# Altium footprint library WE-HCFT.PcbLib: 22 footprints (part 1 of 2)
Each footprint in its own frame and in the unit in brackets; x right, y up, seen from the top. Pads: shape width x height; smd on the part's side, far side on the other; paste and mask are expansions set on the pad; w line width, h text height; cw(c..) or ccw(c..) is an arc to the next point about the centre after c.
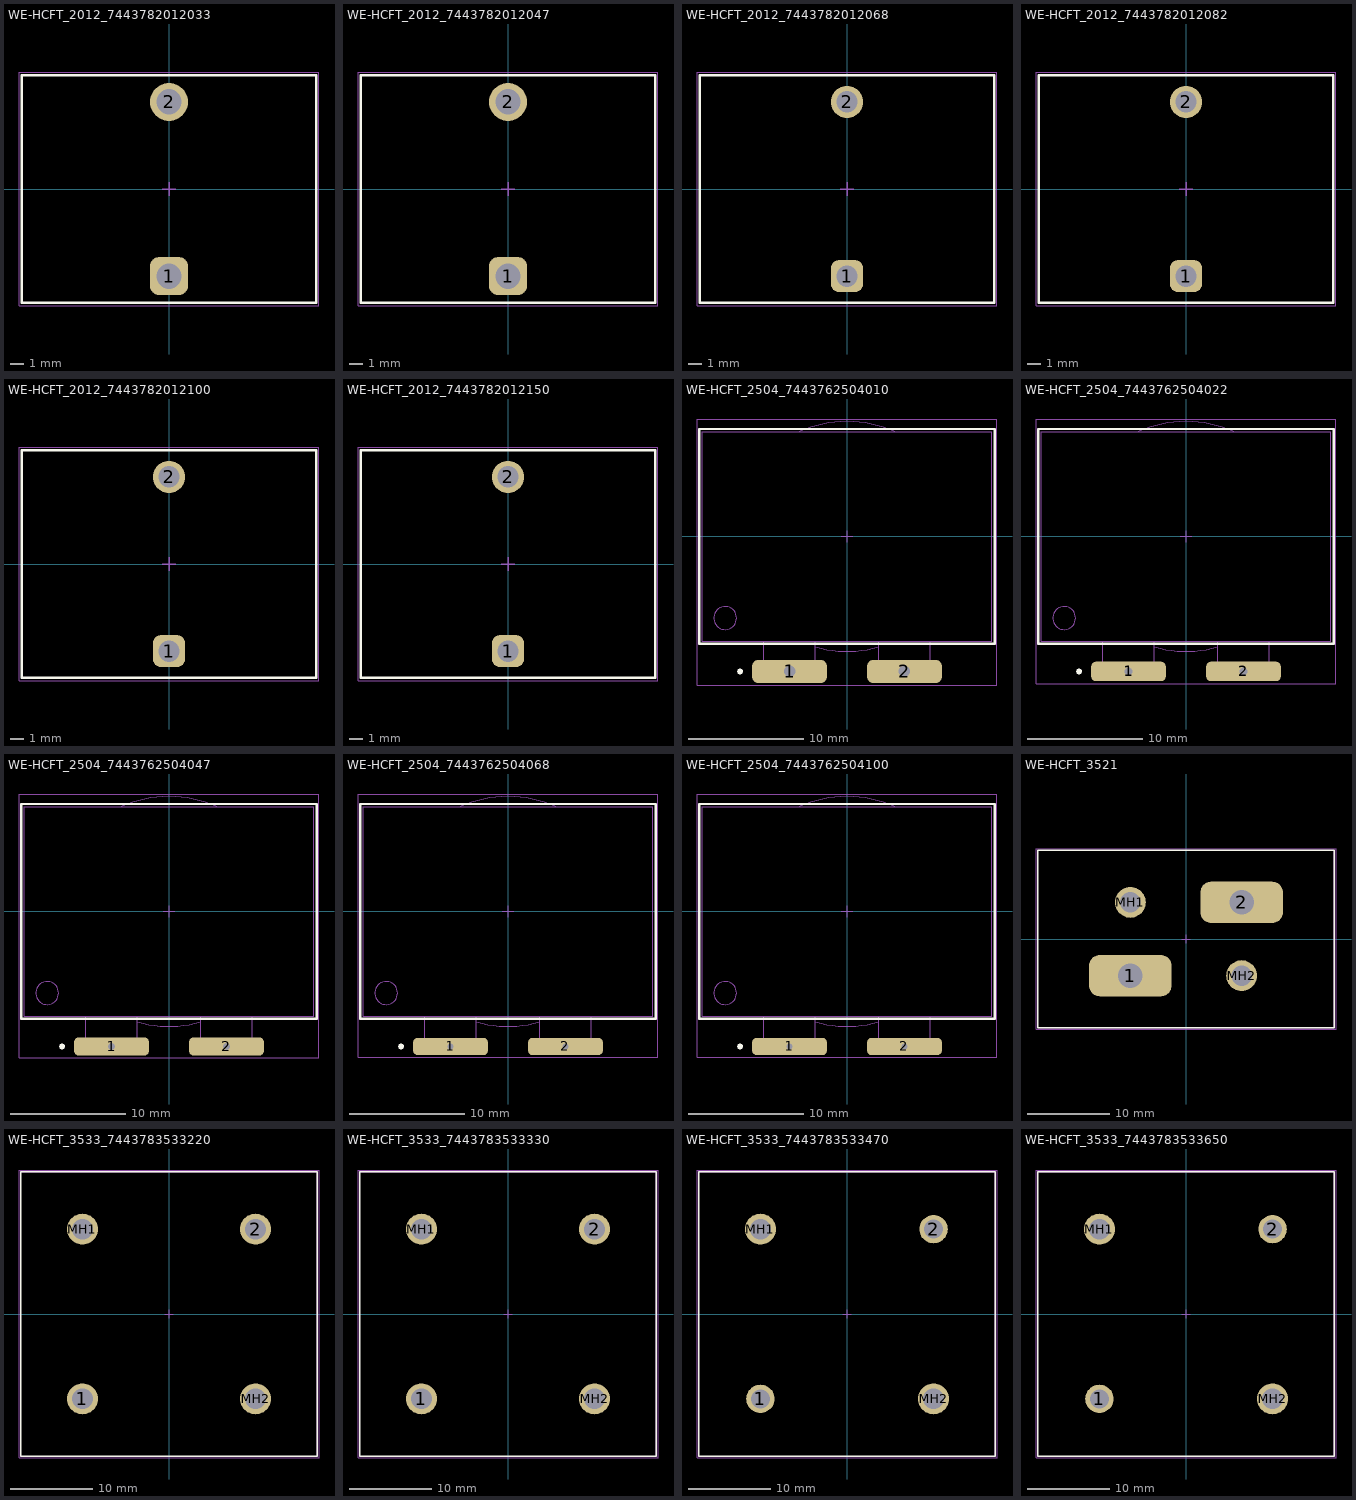
[diagram p0: the footprints below, top view; thin cyan lines are the x and y axes]

## WE-HCFT_2012_7443782012033 [mm] "THT High Current Inductor, body 22x17mm"
height 13.5
pads (2):
  rrect50% 2.85x2.85 hole 1.9: 1(0,-6.5)
  round 2.85 hole 1.9: 2(0,6.5)
Top Overlay:
  lines w0.2: -11,-8.5 11,-8.5 11,8.5 -11,8.5 -11,-8.5
Top Assembly:
  lines w0.1: -11,-8.5 11,-8.5 11,8.5 -11,8.5 -11,-8.5
Top Designator:
  text ".Designator" at -3.647,-0.357 h1
Top 3D Body:
  lines w0.1: -11,-8.5 -11,8.5 11,8.5 11,-8.5 -11,-8.5
Top Courtyard:
  lines w0.05: -11.2,-8.7 11.2,-8.7 11.2,8.7 -11.2,8.7 -11.2,-8.7
Top Component Center:
  lines w0.1: -0.5,0 0.5,0 ; 0,-0.5 0,0.5
3D body "2012_7443782012xxx_1,5 wire.stp": height 13.18, standoff -3.72, extent -10.584,-7.447 10.584,7.45

## WE-HCFT_2012_7443782012047 [mm] "THT High Current Inductor, body 22x17mm"
height 13.5
pads (2):
  rrect50% 2.85x2.85 hole 1.9: 1(0,-6.5)
  round 2.85 hole 1.9: 2(0,6.5)
Top Overlay:
  lines w0.2: -11,-8.5 -11,8.5 11,8.5 11,-8.5 -11,-8.5
Top Assembly:
  lines w0.1: -11,-8.5 -11,8.5 11,8.5 11,-8.5 -11,-8.5
Top Designator:
  text ".Designator" at -3.647,-0.357 h1
Top 3D Body:
  lines w0.1: -11,-8.5 11,-8.5 11,8.5 -11,8.5 -11,-8.5
Top Courtyard:
  lines w0.05: -11.2,-8.7 -11.2,8.7 11.2,8.7 11.2,-8.7 -11.2,-8.7
Top Component Center:
  lines w0.1: -0.5,0 0.5,0 ; 0,-0.5 0,0.5
3D body "2012_7443782012xxx_1,5 wire.stp": height 13.18, standoff -3.72, extent -10.584,-7.447 10.584,7.45

## WE-HCFT_2012_7443782012068 [mm] "THT High Current Inductor, body 22x17mm"
height 13.5
pads (2):
  rrect50% 2.4x2.4 hole 1.6: 1(0,-6.5)
  round 2.4 hole 1.6: 2(0,6.5)
Top Overlay:
  lines w0.2: -11,-8.5 -11,8.5 11,8.5 11,-8.5 -11,-8.5
Top Assembly:
  lines w0.1: -11,-8.5 -11,8.5 11,8.5 11,-8.5 -11,-8.5
Top Designator:
  text ".Designator" at -3.647,-0.357 h1
Top 3D Body:
  lines w0.1: -11,-8.5 11,-8.5 11,8.5 -11,8.5 -11,-8.5
Top Courtyard:
  lines w0.05: -11.2,-8.7 -11.2,8.7 11.2,8.7 11.2,-8.7 -11.2,-8.7
Top Component Center:
  lines w0.1: -0.5,0 0.5,0 ; 0,-0.5 0,0.5
3D body "7443782012xxx_1,2 wire.stp": height 13.18, standoff -3.72, extent -10.584,-7.099 10.584,7.352

## WE-HCFT_2012_7443782012082 [mm] "THT High Current Inductor, body 22x17mm"
height 13.5
pads (2):
  rrect50% 2.4x2.4 hole 1.6: 1(0,-6.5)
  round 2.4 hole 1.6: 2(0,6.5)
Top Overlay:
  lines w0.2: -11,-8.5 11,-8.5 11,8.5 -11,8.5 -11,-8.5
Top Assembly:
  lines w0.1: -11,-8.5 11,-8.5 11,8.5 -11,8.5 -11,-8.5
Top Designator:
  text ".Designator" at -3.647,-0.357 h1
Top 3D Body:
  lines w0.1: -11,-8.5 -11,8.5 11,8.5 11,-8.5 -11,-8.5
Top Courtyard:
  lines w0.05: -11.2,-8.7 11.2,-8.7 11.2,8.7 -11.2,8.7 -11.2,-8.7
Top Component Center:
  lines w0.1: -0.5,0 0.5,0 ; 0,-0.5 0,0.5
3D body "7443782012xxx_1,2 wire.stp": height 13.18, standoff -3.72, extent -10.584,-7.099 10.584,7.352

## WE-HCFT_2012_7443782012100 [mm] "THT High Current Inductor, body 22x17mm"
height 13.5
pads (2):
  rrect50% 2.4x2.4 hole 1.6: 1(0,-6.5)
  round 2.4 hole 1.6: 2(0,6.5)
Top Overlay:
  lines w0.2: -11,-8.5 -11,8.5 11,8.5 11,-8.5 -11,-8.5
Top Assembly:
  lines w0.1: -11,-8.5 -11,8.5 11,8.5 11,-8.5 -11,-8.5
Top Designator:
  text ".Designator" at -3.647,-0.357 h1
Top 3D Body:
  lines w0.1: -11,-8.5 11,-8.5 11,8.5 -11,8.5 -11,-8.5
Top Courtyard:
  lines w0.05: -11.2,-8.7 -11.2,8.7 11.2,8.7 11.2,-8.7 -11.2,-8.7
Top Component Center:
  lines w0.1: -0.5,0 0.5,0 ; 0,-0.5 0,0.5
3D body "7443782012xxx_1,2 wire.stp": height 13.18, standoff -3.72, extent -10.584,-7.099 10.584,7.352

## WE-HCFT_2012_7443782012150 [mm] "THT High Current Inductor, body 22x17mm"
height 13.5
pads (2):
  rrect50% 2.4x2.4 hole 1.6: 1(0,-6.5)
  round 2.4 hole 1.6: 2(0,6.5)
Top Overlay:
  lines w0.2: -11,-8.5 11,-8.5 11,8.5 -11,8.5 -11,-8.5
Top Assembly:
  lines w0.1: -11,-8.5 11,-8.5 11,8.5 -11,8.5 -11,-8.5
Top Designator:
  text ".Designator" at -3.647,-0.357 h1
Top 3D Body:
  lines w0.1: -11,-8.5 -11,8.5 11,8.5 11,-8.5 -11,-8.5
Top Courtyard:
  lines w0.05: -11.2,-8.7 11.2,-8.7 11.2,8.7 -11.2,8.7 -11.2,-8.7
Top Component Center:
  lines w0.1: -0.5,0 0.5,0 ; 0,-0.5 0,0.5
3D body "7443782012xxx_1,2 wire.stp": height 13.18, standoff -3.72, extent -10.584,-7.099 10.584,7.352

## WE-HCFT_2504_7443762504010 [mm] "Flat THT High Current Inductor, body 25.2x18.2mm"
height 4.1
pads (2):
  rrect50% 6.5x2 hole 1 square: 1(-5,-11.75) 2(5,-11.75)
Top Overlay:
  circle w0.25: c-9.3,-11.75 r0.125
  lines w0.2: -12.85,-9.35 12.85,-9.35 12.85,9.35 -12.85,9.35 -12.85,-9.35
Top Assembly:
  circle w0.1: c-10.6,-7.1 r1
  lines w0.1: -7.25,-9.1 -7.25,-12 -2.75,-12 -2.75,-9.1 ; -4.142,9.102 cw(c0,0) 4.142,9.102 ; -2.746,-9.616 ccw(c0,0) 2.742,-9.617 ; 2.75,-9.1 2.75,-12 7.25,-12 7.25,-9.1 ; -12.6,-9.1 -12.6,9.1 12.6,9.1 12.6,-9.1 -12.6,-9.1
Top Designator:
  text ".Designator" at -3.647,-0.357 h1
Top 3D Body:
  lines w0.1: -7.25,-9.1 -7.25,-12 -2.75,-12 -2.75,-9.1 ; -4.142,9.102 cw(c0,0) 4.142,9.102 ; -2.746,-9.616 ccw(c0,0) 2.742,-9.617 ; 2.75,-9.1 2.75,-12 7.25,-12 7.25,-9.1 ; -12.6,-9.1 12.6,-9.1 12.6,9.1 -12.6,9.1 -12.6,-9.1
Top Courtyard:
  lines w0.05: 0,-0.5 0,0.5 ; -13.05,-12.95 -13.05,10.2 13.05,10.2 13.05,-12.95 -13.05,-12.95
Top Component Center:
  lines w0.1: -0.5,0 0.5,0 ; 0,-0.5 0,0.5
3D body "7443762504010.stp": height 4.15, standoff -3.45, extent -12.6,-12 12.6,10

## WE-HCFT_2504_7443762504022 [mm] "Flat THT High Current Inductor, body 25.2x18.2mm"
height 4.1
pads (2):
  rrect50% 6.5x1.7 hole 0.7 square: 1(-5,-11.75) 2(5,-11.75)
Top Overlay:
  circle w0.25: c-9.3,-11.75 r0.125
  lines w0.2: -12.85,-9.35 -12.85,9.35 12.85,9.35 12.85,-9.35 -12.85,-9.35
Top Assembly:
  circle w0.1: c-10.6,-7.1 r1
  lines w0.1: -7.25,-9.1 -7.25,-12 -2.75,-12 -2.75,-9.1 ; -4.142,9.102 cw(c0,0) 4.142,9.102 ; -2.746,-9.616 ccw(c0,0) 2.742,-9.617 ; 2.75,-9.1 2.75,-12 7.25,-12 7.25,-9.1 ; -12.6,-9.1 12.6,-9.1 12.6,9.1 -12.6,9.1 -12.6,-9.1
Top Designator:
  text ".Designator" at -3.647,-0.357 h1
Top 3D Body:
  lines w0.1: -7.25,-9.1 -7.25,-12 -2.75,-12 -2.75,-9.1 ; -4.142,9.102 cw(c0,0) 4.142,9.102 ; -2.746,-9.616 ccw(c0,0) 2.742,-9.617 ; 2.75,-9.1 2.75,-12 7.25,-12 7.25,-9.1 ; -12.6,-9.1 -12.6,9.1 12.6,9.1 12.6,-9.1 -12.6,-9.1
Top Courtyard:
  lines w0.05: -13.05,-12.8 13.05,-12.8 13.05,10.2 -13.05,10.2 -13.05,-12.8
Top Component Center:
  lines w0.1: -0.5,0 0.5,0 ; 0,-0.5 0,0.5
3D body "7443762504022.stp": height 4.15, standoff -3.45, extent -12.6,-12 12.6,10

## WE-HCFT_2504_7443762504047 [mm] "Flat THT High Current Inductor, body 25.2x18.2mm"
height 4.1
pads (2):
  rrect50% 6.5x1.6 hole 0.6 square: 1(-5,-11.75) 2(5,-11.75)
Top Overlay:
  circle w0.25: c-9.3,-11.75 r0.125
  lines w0.2: -12.85,-9.35 12.85,-9.35 12.85,9.35 -12.85,9.35 -12.85,-9.35
Top Assembly:
  circle w0.1: c-10.6,-7.1 r1
  lines w0.1: -7.25,-9.1 -7.25,-12 -2.75,-12 -2.75,-9.1 ; -4.142,9.102 cw(c0,0) 4.142,9.102 ; -2.746,-9.616 ccw(c0,0) 2.742,-9.617 ; 2.75,-9.1 2.75,-12 7.25,-12 7.25,-9.1 ; -12.6,-9.1 -12.6,9.1 12.6,9.1 12.6,-9.1 -12.6,-9.1
Top Designator:
  text ".Designator" at -3.647,-0.357 h1
Top 3D Body:
  lines w0.1: -7.25,-9.1 -7.25,-12 -2.75,-12 -2.75,-9.1 ; -4.142,9.102 cw(c0,0) 4.142,9.102 ; -2.746,-9.616 ccw(c0,0) 2.742,-9.617 ; 2.75,-9.1 2.75,-12 7.25,-12 7.25,-9.1 ; -12.6,-9.1 12.6,-9.1 12.6,9.1 -12.6,9.1 -12.6,-9.1
Top Courtyard:
  lines w0.05: -13.05,-12.75 -13.05,10.2 13.05,10.2 13.05,-12.75 -13.05,-12.75
Top Component Center:
  lines w0.1: -0.5,0 0.5,0 ; 0,-0.5 0,0.5
3D body "7443762504047.stp": height 4.15, standoff -3.45, extent -12.6,-12 12.6,10

## WE-HCFT_2504_7443762504068 [mm] "Flat THT High Current Inductor, body 25.2x18.2mm"
height 4.1
pads (2):
  rrect50% 6.5x1.5 hole 0.5 square: 1(-5,-11.75) 2(5,-11.75)
Top Overlay:
  circle w0.25: c-9.3,-11.75 r0.125
  lines w0.2: -12.85,-9.35 12.85,-9.35 12.85,9.35 -12.85,9.35 -12.85,-9.35
Top Assembly:
  circle w0.1: c-10.6,-7.1 r1
  lines w0.1: -7.25,-9.1 -7.25,-12 -2.75,-12 -2.75,-9.1 ; -4.142,9.102 cw(c0,0) 4.142,9.102 ; -2.746,-9.616 ccw(c0,0) 2.742,-9.617 ; 2.75,-9.1 2.75,-12 7.25,-12 7.25,-9.1 ; -12.6,-9.1 -12.6,9.1 12.6,9.1 12.6,-9.1 -12.6,-9.1
Top Designator:
  text ".Designator" at -3.647,-0.357 h1
Top 3D Body:
  lines w0.1: -7.25,-9.1 -7.25,-12 -2.75,-12 -2.75,-9.1 ; -4.142,9.102 cw(c0,0) 4.142,9.102 ; -2.746,-9.616 ccw(c0,0) 2.742,-9.617 ; 2.75,-9.1 2.75,-12 7.25,-12 7.25,-9.1 ; -12.6,-9.1 12.6,-9.1 12.6,9.1 -12.6,9.1 -12.6,-9.1
Top Courtyard:
  lines w0.05: -13.05,-12.7 -13.05,10.2 13.05,10.2 13.05,-12.7 -13.05,-12.7
Top Component Center:
  lines w0.1: -0.5,0 0.5,0 ; 0,-0.5 0,0.5
3D body "7443762504100.stp": height 4.15, standoff -3.45, extent -12.6,-12 12.6,10

## WE-HCFT_2504_7443762504100 [mm] "Flat THT High Current Inductor, body 25.2x18.2mm"
height 4.1
pads (2):
  rrect50% 6.5x1.5 hole 0.5 square: 1(-5,-11.75) 2(5,-11.75)
Top Overlay:
  circle w0.25: c-9.3,-11.75 r0.125
  lines w0.2: -12.85,-9.35 -12.85,9.35 12.85,9.35 12.85,-9.35 -12.85,-9.35
Top Assembly:
  circle w0.1: c-10.6,-7.1 r1
  lines w0.1: -7.25,-9.1 -7.25,-12 -2.75,-12 -2.75,-9.1 ; -4.142,9.102 cw(c0,0) 4.142,9.102 ; -2.746,-9.616 ccw(c0,0) 2.742,-9.617 ; 2.75,-9.1 2.75,-12 7.25,-12 7.25,-9.1 ; -12.6,-9.1 12.6,-9.1 12.6,9.1 -12.6,9.1 -12.6,-9.1
Top Designator:
  text ".Designator" at -3.647,-0.357 h1
Top 3D Body:
  lines w0.1: -7.25,-9.1 -7.25,-12 -2.75,-12 -2.75,-9.1 ; -4.142,9.102 cw(c0,0) 4.142,9.102 ; -2.746,-9.616 ccw(c0,0) 2.742,-9.617 ; 2.75,-9.1 2.75,-12 7.25,-12 7.25,-9.1 ; -12.6,-9.1 -12.6,9.1 12.6,9.1 12.6,-9.1 -12.6,-9.1
Top Courtyard:
  lines w0.05: -13.05,-12.7 13.05,-12.7 13.05,10.2 -13.05,10.2 -13.05,-12.7
Top Component Center:
  lines w0.1: -0.5,0 0.5,0 ; 0,-0.5 0,0.5
3D body "7443762504100.stp": height 4.15, standoff -3.45, extent -12.6,-12 12.6,10

## WE-HCFT_3521 [mm] "THT High Current Inductor, body 36x21.5mm"
height 35
pads (4):
  rrect50% 10x5 hole 3 square: 1(-6.75,-4.45) 2(6.75,4.45)
  round 3.75 hole 2.5: MH1(-6.75,4.45) MH2(6.75,-4.45)
Top Overlay:
  lines w0.2: -18,-10.75 18,-10.75 18,10.75 -18,10.75 -18,-10.75
Top Assembly:
  lines w0.1: -18,-10.75 -18,10.75 18,10.75 18,-10.75 -18,-10.75
Top Designator:
  text ".Designator" at -3.647,-0.357 h1
Top 3D Body:
  lines w0.1: -18,-10.75 18,-10.75 18,10.75 -18,10.75 -18,-10.75
Top Courtyard:
  lines w0.05: -18.2,-10.95 18.2,-10.95 18.2,10.95 -18.2,10.95 -18.2,-10.95
Top Component Center:
  lines w0.1: -0.5,0 0.5,0 ; 0,-0.5 0,0.5
3D body "3521_7443763521xxx.stp": height 33.45, standoff -3.95, extent -17.6,-10.25 17.6,10.25

## WE-HCFT_3533_7443783533220 [mm] "THT High Current Inductor, body 36x34.5mm"
height 35
pads (4):
  round 3.75 hole 2.5: 1(-10.5,-10.3) 2(10.5,10.3) MH1(-10.5,10.3) MH2(10.5,-10.3)
Top Overlay:
  lines w0.2: -18,-17.25 18,-17.25 18,17.25 -18,17.25 -18,-17.25
Top Assembly:
  lines w0.1: -18,-17.25 -18,17.25 18,17.25 18,-17.25 -18,-17.25
Top Designator:
  text ".Designator" at -3.647,-0.357 h1
Top 3D Body:
  lines w0.1: -18,-17.25 18,-17.25 18,17.25 -18,17.25 -18,-17.25
Top Courtyard:
  lines w0.05: -18.2,-17.45 -18.2,17.45 18.2,17.45 18.2,-17.45 -18.2,-17.45
Top Component Center:
  lines w0.1: -0.5,0 0.5,0 ; 0,-0.5 0,0.5
3D body "3533_7443783533xxx_2,0 wire.stp": height 32.25, standoff -4.95, extent -17.6,-16.9 17.6,16.9

## WE-HCFT_3533_7443783533330 [mm] "THT High Current Inductor, body 36x34.5mm"
height 35
pads (4):
  round 3.75 hole 2.5: 1(-10.5,-10.3) 2(10.5,10.3) MH1(-10.5,10.3) MH2(10.5,-10.3)
Top Overlay:
  lines w0.2: -18,-17.25 -18,17.25 18,17.25 18,-17.25 -18,-17.25
Top Assembly:
  lines w0.1: -18,-17.25 18,-17.25 18,17.25 -18,17.25 -18,-17.25
Top Designator:
  text ".Designator" at -3.647,-0.357 h1
Top 3D Body:
  lines w0.1: -18,-17.25 -18,17.25 18,17.25 18,-17.25 -18,-17.25
Top Courtyard:
  lines w0.05: -18.2,-17.45 18.2,-17.45 18.2,17.45 -18.2,17.45 -18.2,-17.45
Top Component Center:
  lines w0.1: -0.5,0 0.5,0 ; 0,-0.5 0,0.5
3D body "3533_7443783533xxx_2,0 wire.stp": height 32.25, standoff -4.95, extent -17.6,-16.9 17.6,16.9

## WE-HCFT_3533_7443783533470 [mm] "THT High Current Inductor, body 36x34.5mm"
height 35
pads (4):
  round 3.45 hole 2.3: 1(-10.5,-10.3) 2(10.5,10.3)
  round 3.75 hole 2.5: MH1(-10.5,10.3) MH2(10.5,-10.3)
Top Overlay:
  lines w0.2: -18,-17.25 18,-17.25 18,17.25 -18,17.25 -18,-17.25
Top Assembly:
  lines w0.1: -18,-17.25 -18,17.25 18,17.25 18,-17.25 -18,-17.25
Top Designator:
  text ".Designator" at -3.647,-0.357 h1
Top 3D Body:
  lines w0.1: -18,-17.25 18,-17.25 18,17.25 -18,17.25 -18,-17.25
Top Courtyard:
  lines w0.05: -18.2,-17.45 -18.2,17.45 18.2,17.45 18.2,-17.45 -18.2,-17.45
Top Component Center:
  lines w0.1: -0.5,0 0.5,0 ; 0,-0.5 0,0.5
3D body "3533_7443783533xxx_1,8 wire.stp": height 32.25, standoff -4.95, extent -17.6,-16.9 17.6,16.9

## WE-HCFT_3533_7443783533650 [mm] "THT High Current Inductor, body 36x34.5mm"
height 35
pads (4):
  round 3.45 hole 2.3: 1(-10.5,-10.3) 2(10.5,10.3)
  round 3.75 hole 2.5: MH1(-10.5,10.3) MH2(10.5,-10.3)
Top Overlay:
  lines w0.2: -18,-17.25 -18,17.25 18,17.25 18,-17.25 -18,-17.25
Top Assembly:
  lines w0.1: -18,-17.25 18,-17.25 18,17.25 -18,17.25 -18,-17.25
Top Designator:
  text ".Designator" at -3.647,-0.357 h1
Top 3D Body:
  lines w0.1: -18,-17.25 -18,17.25 18,17.25 18,-17.25 -18,-17.25
Top Courtyard:
  lines w0.05: -18.2,-17.45 18.2,-17.45 18.2,17.45 -18.2,17.45 -18.2,-17.45
Top Component Center:
  lines w0.1: -0.5,0 0.5,0 ; 0,-0.5 0,0.5
3D body "3533_7443783533xxx_1,8 wire.stp": height 32.25, standoff -4.95, extent -17.6,-16.9 17.6,16.9